# EAGLE library part 7508110102 (library WE-OLPI)
WE-OLPI Offline Flyback Transformers Characteristics Universal offline input voltage Output power from 2 to 35 W Operating temperature: –40 °C to +125 °C Isolation voltage: up to 5000VAC Applications Offline-switch mode power supplies Especially designed for several ICs from Power Integrations <https://www.we-online.com/components/media/o801423v209%20FAMILY-MID-OLPI.jpg> Details see: www.we-online.com/en/components/products/WE-OLPI <www.we-online.com/catalog/WE-OLPI/?utm_source=eagle_model&utm_medium=description_link&utm_campaign=eisos_eagle> Created by Ella Wu 2024-07-03 2024 (C) Wurth Elektronik
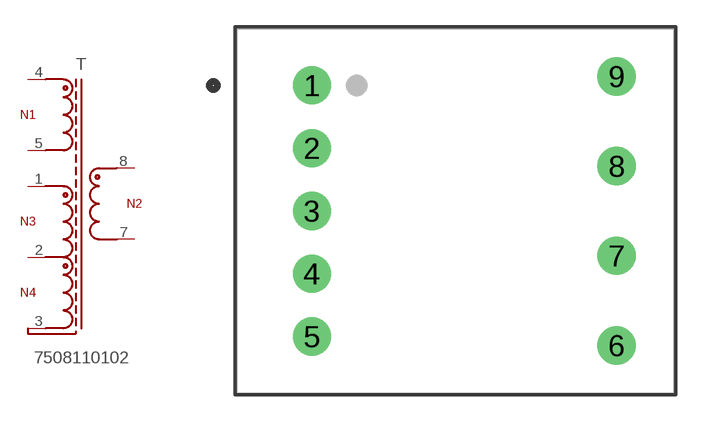
[diagram p1: symbol with the pads of WE-OLPI_EE16/8/5_L20.32W24.38H16; footprint WE-OLPI_EE16/8/5_L20.32W24.38H16]

Designator prefix T

## 7508110102 (DATASHEET-URL: https://www.we-online.com/redexpert/spec/7508110102?ae; FSWITCH: 65kHz; HEIGHT: 16mm; IOUT1: 555A; ISAT: 330V; L: 2.58uH; LENGTH: 20.32mm; MOUNT: THT; N: 18.3:1:0.86:0.86; PART-NUMBER: 7508110102; SIZE: EE16/8/5; VALUE: 7508110102; VAUX: 8.6V; VAUX1: 4.3A; VAUX2: 4.3V; VIN: 85 - 265 V (AC); VOUT1: 5V; VT: 4500V(AC); WIDTH: 24.38mm)  [WE-OLPI_EE16/8/5_L20.32W24.38H16]
1  1  pas
2  2  pas
3  3  pas
4  4  pas
5  5  pas
7  7  pas
8  8  pas

## Footprint WE-OLPI_EE16/8/5_L20.32W24.38H16 (pad centres in mm)
MID-OLPI Offline Flyback Transformers for Power Integrations Size: EE16/8/5,THT,9pins LXWXH=20.32X24.38X16mm
drill 1.42: 1 -8.5,7; 2 -8.5,3.5; 3 -8.5,0; 4 -8.5,-3.5; 5 -8.5,-7; 6 8.5,-7.5; 7 8.5,-2.5; 8 8.5,2.5; 9 8.5,7.5